# EAGLE library part MAX3485ESA (library doz)
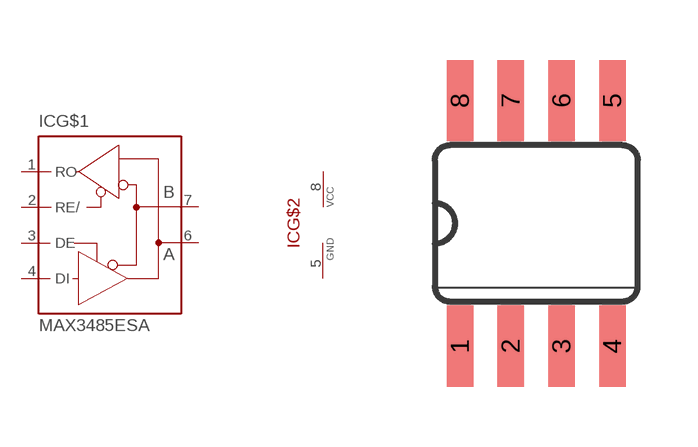
[diagram p8: symbol with the pads of SO08; footprint SO08]

Designator prefix IC; gates G$1=MAX3485ESA G$2=P-GATE

## MAX3485ESA  [SO08]
1  G$1:RO  out
2  G$1:RE/  in
3  G$1:DE  in
4  G$1:DI  in
5  G$2:GND  pwr
6  G$1:A  pas
7  G$1:B  pas
8  G$2:VCC  pwr

## Footprint SO08 (pad centres in mm)
SOIC 150 mil
smd 0.66 x 2.032: 1 -1.905,-3.073; 2 -0.635,-3.073; 3 0.635,-3.073; 4 1.905,-3.073; 5 1.905,3.073; 6 0.635,3.073; 7 -0.635,3.073; 8 -1.905,3.073